# EAGLE library part MC68B50 (library F030NG)
ACIA / MC68B50
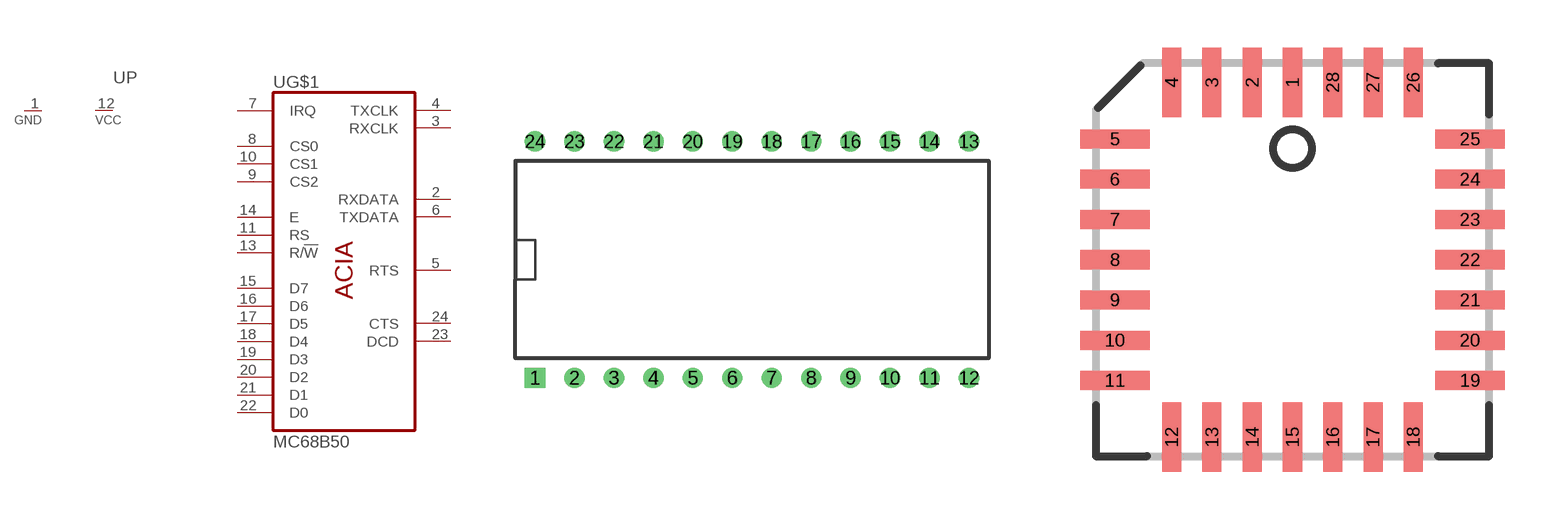
[diagram p4: symbol with the pads of DIL24W; footprints DIL24W, PLCC28]

Designator prefix U; gates G$1=68B50 P=1VCC_1GND

## MC68B50-DIL24 (MF: NTE ELECTRONICS; MPN: NTE6850; OC_FARNELL: 4899775; OC_NEWARK: 31C2457)  [DIL24W]
1  P:GND  pwr
2  G$1:RXDATA  in
3  G$1:RXCLK  in
4  G$1:TXCLK  in
5  G$1:RTS  out
6  G$1:TXDATA  out
7  G$1:IRQ  out
8  G$1:CS0  in
9  G$1:CS2  in
10  G$1:CS1  in
11  G$1:RS  in
12  P:VCC  pwr
13  G$1:R/!W  in
14  G$1:E  in
15  G$1:D7
16  G$1:D6
17  G$1:D5
18  G$1:D4
19  G$1:D3
20  G$1:D2
21  G$1:D1
22  G$1:D0
23  G$1:DCD  in
24  G$1:CTS  in

## MC68B50  [PLCC28]
1  P:GND  pwr
2  G$1:RXDATA  in
3  G$1:RXCLK  in
4  G$1:TXCLK  in
8  G$1:RTS  out
9  G$1:TXDATA  out
10  G$1:IRQ  out
11  G$1:CS0  in
12  G$1:CS2  in
13  G$1:CS1  in
14  G$1:RS  in
15  P:VCC  pwr
16  G$1:R/!W  in
17  G$1:E  in
18  G$1:D7
19  G$1:D6
20  G$1:D5
21  G$1:D4
22  G$1:D3
23  G$1:D2
24  G$1:D1
25  G$1:D0
27  G$1:DCD  in
28  G$1:CTS  in

## Footprint DIL24W (pad centres in mm)
Dual In Line Package
drill 0.8 square: 1 -13.97,-7.62
drill 0.8: 2 -11.43,-7.62; 3 -8.89,-7.62; 4 -6.35,-7.62; 5 -3.81,-7.62; 6 -1.27,-7.62; 7 1.27,-7.62; 8 3.81,-7.62; 9 6.35,-7.62; 10 8.89,-7.62; 11 11.43,-7.62; 12 13.97,-7.62; 13 13.97,7.62; 14 11.43,7.62; 15 8.89,7.62; 16 6.35,7.62; 17 3.81,7.62; 18 1.27,7.62; 19 -1.27,7.62; 20 -3.81,7.62; 21 -6.35,7.62; 22 -8.89,7.62; 23 -11.43,7.62; 24 -13.97,7.62

## Footprint PLCC28 (pad centres in mm)
smd 0.6 x 2.2: 1 0,5.6; 2 -1.27,5.6; 3 -2.54,5.6; 4 -3.81,5.6; 12 -3.81,-5.6; 13 -2.54,-5.6; 14 -1.27,-5.6; 15 0,-5.6; 16 1.27,-5.6; 17 2.54,-5.6; 18 3.81,-5.6; 26 3.81,5.6; 27 2.54,5.6; 28 1.27,5.6
smd 2.2 x 0.6: 5 -5.6,3.81; 6 -5.6,2.54; 7 -5.6,1.27; 8 -5.6,0; 9 -5.6,-1.27; 10 -5.6,-2.54; 11 -5.6,-3.81; 19 5.6,-3.81; 20 5.6,-2.54; 21 5.6,-1.27; 22 5.6,0; 23 5.6,1.27; 24 5.6,2.54; 25 5.6,3.81